# EAGLE library part ZXMHC3F381N8_H-BRIDGE_3A (library PiB)
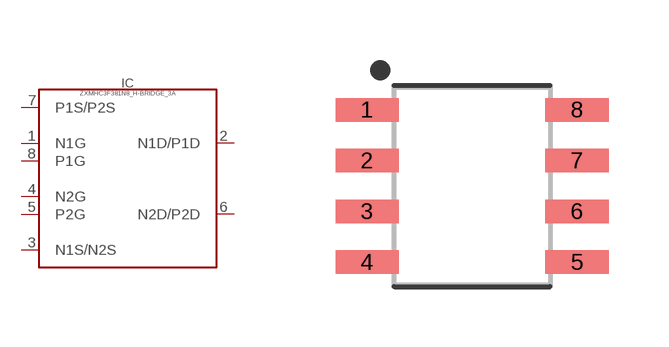
[diagram p9: symbol with the pads of SOIC127P600X150-8; footprint SOIC127P600X150-8]

Designator prefix IC

## ZXMHC3F381N8_H-BRIDGE_3A_H-BRIDGE_COMP-FET_N-4.6A_P-3.2A (DATASHEET: https://www.diodes.com/assets/Datasheets/DMHC3025LSD.pdf; DIST: Digikey; DISTLINK: https://www.digikey.com/products/en?keywords=DMHC3025LSD-13DICT-ND; DISTPN: DMHC3025LSD-13DICT-ND; MFR: Diodes Incorporated; MPN: DMHC3025LSD-13; VALUE: DMHC3025LSD)  [SOIC127P600X150-8]
1  N1G  pas
2  N1D/P1D  pas
3  N1S/N2S  pas
4  N2G  pas
5  P2G  pas
6  N2D/P2D  pas
7  P1S/P2S  pas
8  P1G  pas

## Footprint SOIC127P600X150-8 (pad centres in mm)
8-SOIC, 1.27 mm pitch, 6 mm span, 4.9 X 3.85 X 1.5 mm body 8-pin SOIC package with 1.27 mm pitch, 6 mm span with body size 4.9 X 3.85 X 1.5 mm
smd 1.58 x 0.589: 1 -2.625,1.905; 2 -2.625,0.635; 3 -2.625,-0.635; 4 -2.625,-1.905; 5 2.625,-1.905; 6 2.625,-0.635; 7 2.625,0.635; 8 2.625,1.905